# EAGLE library part SW-2P3T (library parts)
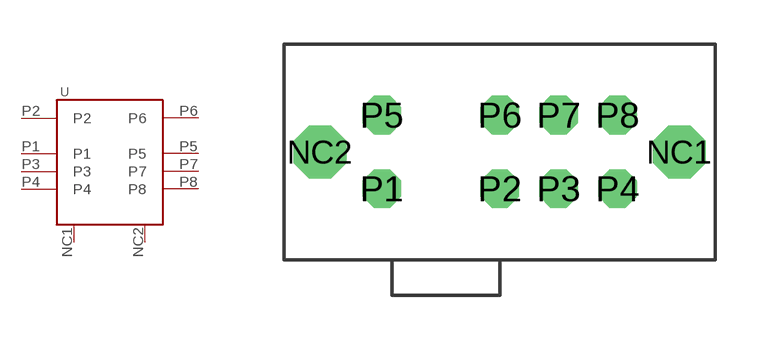
[diagram p2: symbol with the pads of SW-2P3T; footprint SW-2P3T]

Designator prefix -

## SW-2P3T  [SW-2P3T]
NC1  NC1
NC2  NC2
P1  P1
P2  P2
P3  P3
P4  P4
P5  P5
P6  P6
P7  P7
P8  P8

## Footprint SW-2P3T (pad centres in mm)
drill 1.2 octagon: NC1 0,0; NC2 -12.2,0
drill 0.8 octagon: P1 -10.1,-1.25; P2 -6.1,-1.25; P3 -4.1,-1.25; P4 -2.1,-1.25; P5 -10.1,1.25; P6 -6.1,1.25; P7 -4.1,1.25; P8 -2.1,1.25